# Altium schematic symbol library Sensors.SchLib: 5 symbols
Pins are listed as number, name and electrical type; pins without a type are passive.

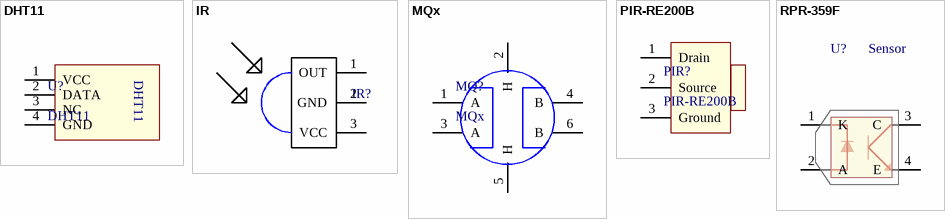
[diagram p0: symbols DHT11 to RPR-359F]

## DHT11
designator U?
pins: 1 VCC, 2 DATA, 3 NC, 4 GND

## IR
designator IR?, comment Comment  (value not drawn)
pins: 1 OUT, 2 GND, 3 VCC

## MQx
designator MQ?
pins: 1 A, 2 H, 3 A, 4 B, 5 H, 6 B

## PIR-RE200B
designator PIR?
pins: 1 Drain, 2 Source, 3 Ground

## RPR-359F
designator U?, comment Sensor
Reflective Optical Sensor 0.138 (3.5mm) PCB Mount
pins: 1 K, 2 A, 3 C, 4 E